# Altium schematic symbol library XD-RF-5V.Schlib: 1 symbol
Pins are listed as number, name and electrical type; pins without a type are passive.

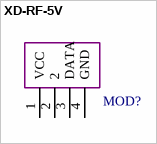
[diagram p0: symbol XD-RF-5V]

## XD-RF-5V
designator MOD?  (value not drawn)
pins: 1 VCC, 2, 3 DATA, 4 GND